# EAGLE library part 7SEG-CAT (library custom-2002)
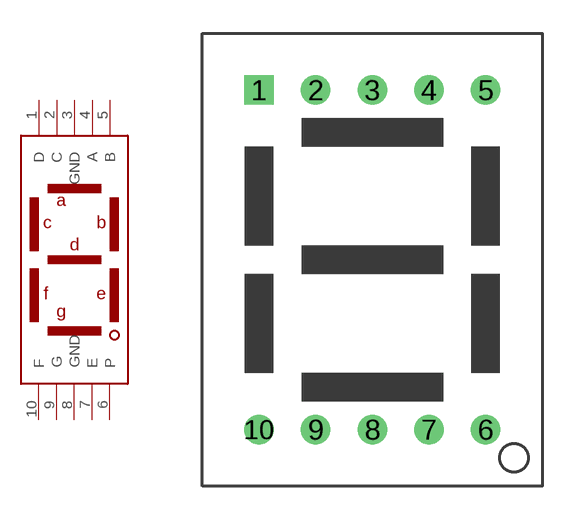
[diagram p16: symbol with the pads of 7SEG; footprint 7SEG]

Designator prefix -

## 7SEG-CAT  [7SEG]
1  D
2  C
3  GND
4  A
5  B
6  P
7  E
8  GND
9  G
10  F

## Footprint 7SEG (pad centres in mm)
drill 0.813 square: 1 -5.08,7.62
drill 0.813 round: 2 -2.54,7.62; 3 0,7.62; 4 2.54,7.62; 5 5.08,7.62; 6 5.08,-7.62; 7 2.54,-7.62; 8 0,-7.62; 9 -2.54,-7.62; 10 -5.08,-7.62